# Altium footprint library QFP_Rect_80P_Side_L.PcbLib: 4 footprints
Each footprint in its own frame and in the unit in brackets; x right, y up, seen from the top. Pads: shape width x height; smd on the part's side, far side on the other; paste and mask are expansions set on the pad; w line width, h text height; cw(c..) or ccw(c..) is an arc to the next point about the centre after c.
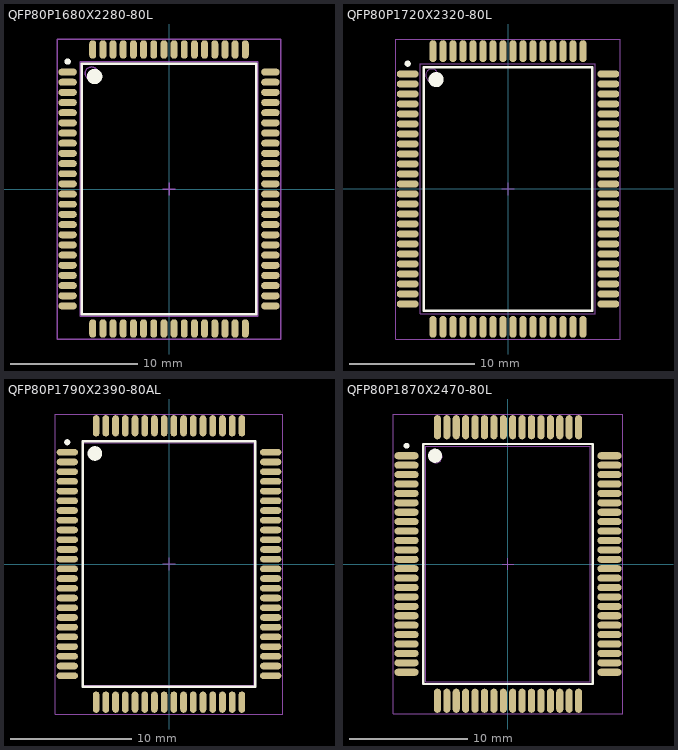
[diagram p0: the footprints below, top view; thin cyan lines are the x and y axes]

## QFP80P1680X2280-80L [mm] "80-Pin Quad Flat Pack Rectangular 0.8 mm Pitch"
height 3.05
pads (80):
  oval 1.45x0.55 smd: 1(-7.975,9.2) 2(-7.975,8.4) 3(-7.975,7.6) 4(-7.975,6.8) 5(-7.975,6) 6(-7.975,5.2) 7(-7.975,4.4) 8(-7.975,3.6) 9(-7.975,2.8) 10(-7.975,2) 11(-7.975,1.2) 12(-7.975,0.4) 13(-7.975,-0.4) 14(-7.975,-1.2) 15(-7.975,-2) 16(-7.975,-2.8) 17(-7.975,-3.6) 18(-7.975,-4.4) 19(-7.975,-5.2) 20(-7.975,-6) 21(-7.975,-6.8) 22(-7.975,-7.6) 23(-7.975,-8.4) 24(-7.975,-9.2) 41(7.975,-9.2) 42(7.975,-8.4) 43(7.975,-7.6) 44(7.975,-6.8) 45(7.975,-6) 46(7.975,-5.2) 47(7.975,-4.4) 48(7.975,-3.6) 49(7.975,-2.8) 50(7.975,-2) 51(7.975,-1.2) 52(7.975,-0.4) 53(7.975,0.4) 54(7.975,1.2) 55(7.975,2) 56(7.975,2.8) 57(7.975,3.6) 58(7.975,4.4) 59(7.975,5.2) 60(7.975,6) 61(7.975,6.8) 62(7.975,7.6) 63(7.975,8.4) 64(7.975,9.2)
  oval 0.55x1.45 smd: 25(-6,-10.975) 26(-5.2,-10.975) 27(-4.4,-10.975) 28(-3.6,-10.975) 29(-2.8,-10.975) 30(-2,-10.975) 31(-1.2,-10.975) 32(-0.4,-10.975) 33(0.4,-10.975) 34(1.2,-10.975) 35(2,-10.975) 36(2.8,-10.975) 37(3.6,-10.975) 38(4.4,-10.975) 39(5.2,-10.975) 40(6,-10.975) 65(6,10.975) 66(5.2,10.975) 67(4.4,10.975) 68(3.6,10.975) 69(2.8,10.975) 70(2,10.975) 71(1.2,10.975) 72(0.4,10.975) 73(-0.4,10.975) 74(-1.2,10.975) 75(-2,10.975) 76(-2.8,10.975) 77(-3.6,10.975) 78(-4.4,10.975) 79(-5.2,10.975) 80(-6,10.975)
Top Overlay:
  circle w0.6: c-5.85,8.85 r0.3
  circle w0.25: c-7.975,10.025 r0.125
  lines w0.2: -6.85,-9.85 6.85,-9.85 6.85,9.85 -6.85,9.85 -6.85,-9.85
Mechanical 13:
  circle w0.1: c-6.1,9.1 r0.5
  lines w0.1: -7,-10 7,-10 7,10 -7,10 -7,-10
Mechanical 15:
  lines w0.1: -0.5,0 0.5,0 ; 0,-0.5 0,0.5 ; -8.8,-11.8 8.8,-11.8 8.8,11.8 -8.8,11.8 -8.8,-11.8
3D body: height 3.05, standoff 0, extent -7,-10 7,10

## QFP80P1720X2320-80L [mm] "QFP, 80-Leads, Body 20x14mm, Pitch 0.8mm, IPC High Density"
height 2.45
pads (80):
  oval 1.75x0.55 smd: 1(-8.025,9.2) 2(-8.025,8.4) 3(-8.025,7.6) 4(-8.025,6.8) 5(-8.025,6) 6(-8.025,5.2) 7(-8.025,4.4) 8(-8.025,3.6) 9(-8.025,2.8) 10(-8.025,2) 11(-8.025,1.2) 12(-8.025,0.4) 13(-8.025,-0.4) 14(-8.025,-1.2) 15(-8.025,-2) 16(-8.025,-2.8) 17(-8.025,-3.6) 18(-8.025,-4.4) 19(-8.025,-5.2) 20(-8.025,-6) 21(-8.025,-6.8) 22(-8.025,-7.6) 23(-8.025,-8.4) 24(-8.025,-9.2) 41(8.025,-9.2) 42(8.025,-8.4) 43(8.025,-7.6) 44(8.025,-6.8) 45(8.025,-6) 46(8.025,-5.2) 47(8.025,-4.4) 48(8.025,-3.6) 49(8.025,-2.8) 50(8.025,-2) 51(8.025,-1.2) 52(8.025,-0.4) 53(8.025,0.4) 54(8.025,1.2) 55(8.025,2) 56(8.025,2.8) 57(8.025,3.6) 58(8.025,4.4) 59(8.025,5.2) 60(8.025,6) 61(8.025,6.8) 62(8.025,7.6) 63(8.025,8.4) 64(8.025,9.2)
  oval 0.55x1.75 smd: 25(-6,-11.025) 26(-5.2,-11.025) 27(-4.4,-11.025) 28(-3.6,-11.025) 29(-2.8,-11.025) 30(-2,-11.025) 31(-1.2,-11.025) 32(-0.4,-11.025) 33(0.4,-11.025) 34(1.2,-11.025) 35(2,-11.025) 36(2.8,-11.025) 37(3.6,-11.025) 38(4.4,-11.025) 39(5.2,-11.025) 40(6,-11.025) 65(6,11.025) 66(5.2,11.025) 67(4.4,11.025) 68(3.6,11.025) 69(2.8,11.025) 70(2,11.025) 71(1.2,11.025) 72(0.4,11.025) 73(-0.4,11.025) 74(-1.2,11.025) 75(-2,11.025) 76(-2.8,11.025) 77(-3.6,11.025) 78(-4.4,11.025) 79(-5.2,11.025) 80(-6,11.025)
Top Overlay:
  circle w0.6: c-5.75,8.75 r0.3
  circle w0.25: c-8.025,10.025 r0.125
  lines w0.2: -6.75,-9.75 6.75,-9.75 6.75,9.75 -6.75,9.75 -6.75,-9.75
Mechanical 13:
  circle w0.1: c-6.1,9.1 r0.5
  lines w0.1: -7,-10 7,-10 7,10 -7,10 -7,-10
Mechanical 15:
  lines w0.1: -0.5,0 0.5,0 ; 0,-0.5 0,0.5 ; -9,-12 9,-12 9,12 -9,12 -9,-12
3D body: height 2.45, standoff 0, extent -7,-10 7,10

## QFP80P1790X2390-80AL [mm] "QFP, 80-Leads, Body 20x14mm, Pitch 0.8mm, IPC High Density"
height 3.25
pads (80):
  oval 1.75x0.55 smd: 1(-8.375,9.2) 2(-8.375,8.4) 3(-8.375,7.6) 4(-8.375,6.8) 5(-8.375,6) 6(-8.375,5.2) 7(-8.375,4.4) 8(-8.375,3.6) 9(-8.375,2.8) 10(-8.375,2) 11(-8.375,1.2) 12(-8.375,0.4) 13(-8.375,-0.4) 14(-8.375,-1.2) 15(-8.375,-2) 16(-8.375,-2.8) 17(-8.375,-3.6) 18(-8.375,-4.4) 19(-8.375,-5.2) 20(-8.375,-6) 21(-8.375,-6.8) 22(-8.375,-7.6) 23(-8.375,-8.4) 24(-8.375,-9.2) 41(8.375,-9.2) 42(8.375,-8.4) 43(8.375,-7.6) 44(8.375,-6.8) 45(8.375,-6) 46(8.375,-5.2) 47(8.375,-4.4) 48(8.375,-3.6) 49(8.375,-2.8) 50(8.375,-2) 51(8.375,-1.2) 52(8.375,-0.4) 53(8.375,0.4) 54(8.375,1.2) 55(8.375,2) 56(8.375,2.8) 57(8.375,3.6) 58(8.375,4.4) 59(8.375,5.2) 60(8.375,6) 61(8.375,6.8) 62(8.375,7.6) 63(8.375,8.4) 64(8.375,9.2)
  oval 0.55x1.75 smd: 25(-6,-11.375) 26(-5.2,-11.375) 27(-4.4,-11.375) 28(-3.6,-11.375) 29(-2.8,-11.375) 30(-2,-11.375) 31(-1.2,-11.375) 32(-0.4,-11.375) 33(0.4,-11.375) 34(1.2,-11.375) 35(2,-11.375) 36(2.8,-11.375) 37(3.6,-11.375) 38(4.4,-11.375) 39(5.2,-11.375) 40(6,-11.375) 65(6,11.375) 66(5.2,11.375) 67(4.4,11.375) 68(3.6,11.375) 69(2.8,11.375) 70(2,11.375) 71(1.2,11.375) 72(0.4,11.375) 73(-0.4,11.375) 74(-1.2,11.375) 75(-2,11.375) 76(-2.8,11.375) 77(-3.6,11.375) 78(-4.4,11.375) 79(-5.2,11.375) 80(-6,11.375)
Top Overlay:
  circle w0.6: c-6.1,9.1 r0.3
  circle w0.25: c-8.375,10.025 r0.125
  lines w0.2: -7.1,-10.1 7.1,-10.1 7.1,10.1 -7.1,10.1 -7.1,-10.1
Mechanical 13:
  circle w0.1: c-6.1,9.1 r0.5
  lines w0.1: -7,-10 7,-10 7,10 -7,10 -7,-10
Mechanical 15:
  lines w0.1: -0.5,0 0.5,0 ; 0,-0.5 0,0.5 ; -9.35,-12.35 9.35,-12.35 9.35,12.35 -9.35,12.35 -9.35,-12.35
3D body: height 3.25, standoff 0, extent -7,-10 7,10

## QFP80P1870X2470-80L [mm] "QFP, 80-Leads, Body 20x14mm, Pitch 0.8mm, IPC High Density"
height 2.3
pads (80):
  oval 2.05x0.6 smd: 1(-8.625,9.2) 2(-8.625,8.4) 3(-8.625,7.6) 4(-8.625,6.8) 5(-8.625,6) 6(-8.625,5.2) 7(-8.625,4.4) 8(-8.625,3.6) 9(-8.625,2.8) 10(-8.625,2) 11(-8.625,1.2) 12(-8.625,0.4) 13(-8.625,-0.4) 14(-8.625,-1.2) 15(-8.625,-2) 16(-8.625,-2.8) 17(-8.625,-3.6) 18(-8.625,-4.4) 19(-8.625,-5.2) 20(-8.625,-6) 21(-8.625,-6.8) 22(-8.625,-7.6) 23(-8.625,-8.4) 24(-8.625,-9.2) 41(8.625,-9.2) 42(8.625,-8.4) 43(8.625,-7.6) 44(8.625,-6.8) 45(8.625,-6) 46(8.625,-5.2) 47(8.625,-4.4) 48(8.625,-3.6) 49(8.625,-2.8) 50(8.625,-2) 51(8.625,-1.2) 52(8.625,-0.4) 53(8.625,0.4) 54(8.625,1.2) 55(8.625,2) 56(8.625,2.8) 57(8.625,3.6) 58(8.625,4.4) 59(8.625,5.2) 60(8.625,6) 61(8.625,6.8) 62(8.625,7.6) 63(8.625,8.4) 64(8.625,9.2)
  oval 0.6x2.05 smd: 25(-6,-11.625) 26(-5.2,-11.625) 27(-4.4,-11.625) 28(-3.6,-11.625) 29(-2.8,-11.625) 30(-2,-11.625) 31(-1.2,-11.625) 32(-0.4,-11.625) 33(0.4,-11.625) 34(1.2,-11.625) 35(2,-11.625) 36(2.8,-11.625) 37(3.6,-11.625) 38(4.4,-11.625) 39(5.2,-11.625) 40(6,-11.625) 65(6,11.625) 66(5.2,11.625) 67(4.4,11.625) 68(3.6,11.625) 69(2.8,11.625) 70(2,11.625) 71(1.2,11.625) 72(0.4,11.625) 73(-0.4,11.625) 74(-1.2,11.625) 75(-2,11.625) 76(-2.8,11.625) 77(-3.6,11.625) 78(-4.4,11.625) 79(-5.2,11.625) 80(-6,11.625)
Top Overlay:
  circle w0.6: c-6.2,9.2 r0.3
  circle w0.25: c-8.625,10.05 r0.125
  lines w0.2: -7.2,-10.2 7.2,-10.2 7.2,10.2 -7.2,10.2 -7.2,-10.2
Mechanical 13:
  circle w0.1: c-6.1,9.1 r0.5
  lines w0.1: -7,-10 7,-10 7,10 -7,10 -7,-10
Mechanical 15:
  lines w0.1: -0.5,0 0.5,0 ; 0,-0.5 0,0.5 ; -9.75,-12.75 9.75,-12.75 9.75,12.75 -9.75,12.75 -9.75,-12.75
3D body: height 2.3, standoff 0, extent -7,-10 7,10